# EAGLE library part PH_2X13 (library PP_Connectors)
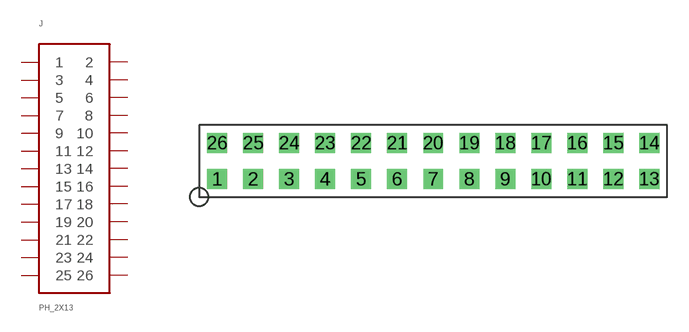
[diagram p13: symbol with the pads of HEADER_02X13_PTH; footprint HEADER_02X13_PTH]

Designator prefix J

## PH_2X13HEADER_02X13_PTH  [HEADER_02X13_PTH]
1  1
2  3
3  5
4  7
5  9
6  11
7  13
8  15
9  17
10  19
11  21
12  23
13  25
14  26
15  24
16  22
17  20
18  18
19  16
20  14
21  12
22  10
23  8
24  6
25  4
26  2

## Footprint HEADER_02X13_PTH (pad centres in mm)
drill 0.9 square: 1 -15.24,-1.27; 2 -12.7,-1.27; 3 -10.16,-1.27; 4 -7.62,-1.27; 5 -5.08,-1.27; 6 -2.54,-1.27; 7 0,-1.27; 8 2.54,-1.27; 9 5.08,-1.27; 10 7.62,-1.27; 11 10.16,-1.27; 12 12.7,-1.27; 13 15.24,-1.27; 14 15.24,1.27; 15 12.7,1.27; 16 10.16,1.27; 17 7.62,1.27; 18 5.08,1.27; 19 2.54,1.27; 20 0,1.27; 21 -2.54,1.27; 22 -5.08,1.27; 23 -7.62,1.27; 24 -10.16,1.27; 25 -12.7,1.27; 26 -15.24,1.27